# EAGLE library part 30_PIN_FPC (library Eric Navarrete Custom Parts Feb 2019)
30 pin direct solder FPC connection point. 0.7mm pitch
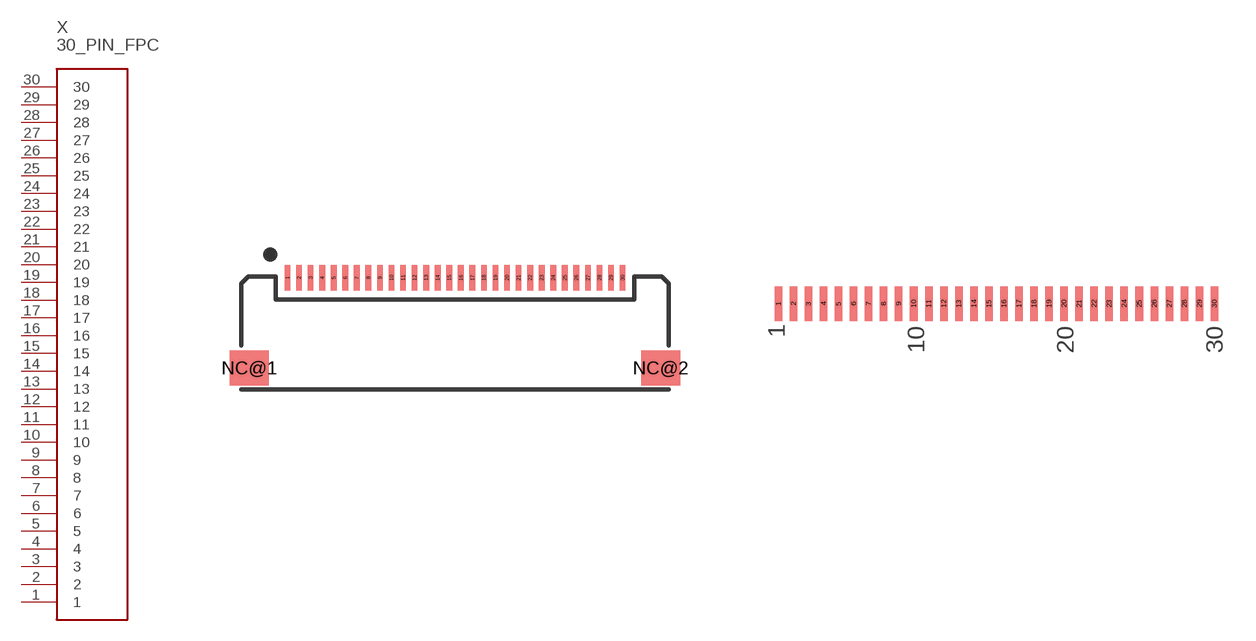
[diagram p19: symbol with the pads of XF2M-3015-1A; footprints XF2M-3015-1A, 1X30-0.7MM]

Designator prefix X

## 30_PIN_FPCXF2M-3015-1A_ROTARY_CONNECTOR_0.5MM  [XF2M-3015-1A]
1  1
2  2
3  3
4  4
5  5
6  6
7  7
8  8
9  9
10  10
11  11
12  12
13  13
14  14
15  15
16  16
17  17
18  18
19  19
20  20
21  21
22  22
23  23
24  24
25  25
26  26
27  27
28  28
29  29
30  30

## 30_PIN_FPC30_PIN_FPC_DIRECT_SOLDERED_0.7MM  [1X30-0.7MM]
Pads as for XF2M-3015-1A

## Footprint XF2M-3015-1A (pad centres in mm)
smd 0.25 x 1.1: 1 -7.25,2.53; 2 -6.75,2.53; 3 -6.25,2.53; 4 -5.75,2.53; 5 -5.25,2.53; 6 -4.75,2.53; 7 -4.25,2.53; 8 -3.75,2.53; 9 -3.25,2.53; 10 -2.75,2.53; 11 -2.25,2.53; 12 -1.75,2.53; 13 -1.25,2.53; 14 -0.75,2.53; 15 -0.25,2.53; 16 0.25,2.53; 17 0.75,2.53; 18 1.25,2.53; 19 1.75,2.53; 20 2.25,2.53; 21 2.75,2.53; 22 3.25,2.53; 23 3.75,2.53; 24 4.25,2.53; 25 4.75,2.53; 26 5.25,2.53; 27 5.75,2.53; 28 6.25,2.53; 29 6.75,2.53; 30 7.25,2.53
smd 1.7 x 1.5: NC@1 -8.9,-1.37; NC@2 8.9,-1.37

## Footprint 1X30-0.7MM (pad centres in mm)
smd 0.35 x 1.6: 1 -10.15,0; 2 -9.45,0; 3 -8.75,0; 4 -8.05,0; 5 -7.35,0; 6 -6.65,0; 7 -5.95,0; 8 -5.25,0; 9 -4.55,0; 10 -3.85,0; 11 -3.15,0; 12 -2.45,0; 13 -1.75,0; 14 -1.05,0; 15 -0.35,0; 16 0.35,0; 17 1.05,0; 18 1.75,0; 19 2.45,0; 20 3.15,0; 21 3.85,0; 22 4.55,0; 23 5.25,0; 24 5.95,0; 25 6.65,0; 26 7.35,0; 27 8.05,0; 28 8.75,0; 29 9.45,0; 30 10.15,0